# EAGLE library part 1.25T-2-8A (library Deegou_Connector)
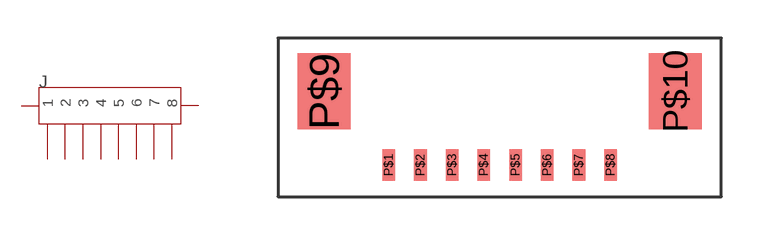
[diagram p53: symbol with the pads of 1.25T-2-8A; footprint 1.25T-2-8A]

Designator prefix J

## 1.25T-2-8A-1.25MM  [1.25T-2-8A]
P$1  1
P$2  2
P$3  3
P$4  4
P$5  5
P$6  6
P$7  7
P$8  8
P$9  P$9
P$10  P$10

## Footprint 1.25T-2-8A (pad centres in mm)
smd 0.5 x 1.25: P$1 -4.375,0; P$2 -3.125,0; P$3 -1.875,0; P$4 -0.625,0; P$5 0.625,0; P$6 1.875,0; P$7 3.125,0; P$8 4.375,0
smd 2.1 x 3: P$9 -6.925,2.9; P$10 6.925,2.9